# EAGLE library part LX200V30 (library ali_modules)
Broadband Power Line Communication Module Datasheet <https://downloads.rakwireless.com/PLC/LX200V30/Hardware%20Specification/LX200V30_Data_Sheet.pdf>
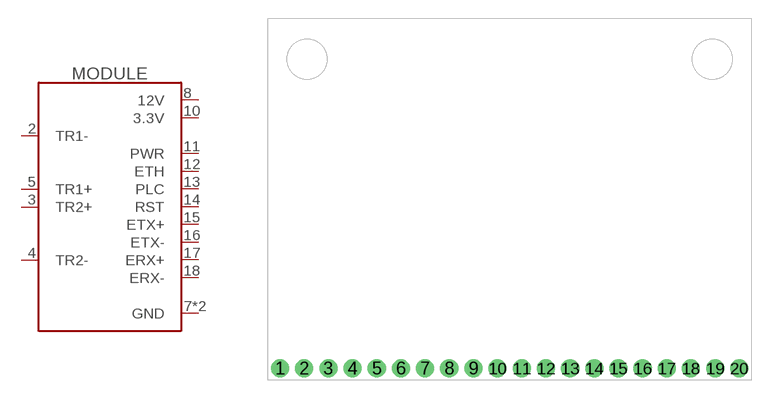
[diagram p1: symbol with the pads of LX200V30; footprint LX200V30]

Designator prefix MODULE

## LX200V30 (MANF: Rakwireless; MANF#: LX200V30)  [LX200V30]
2  TR1-
3  TR2+
4  TR2-
5  TR1+
7  GND
8  12V
9  GND
10  3.3V
11  PWR
12  ETH
13  PLC
14  RST
15  ETX+
16  ETX-
17  ERX+
18  ERX-

## Footprint LX200V30 (pad centres in mm)
drill 0.9 pad 1.5: 1 -19,-14; 2 -17,-14; 3 -15,-14; 4 -13,-14; 5 -11,-14; 6 -9,-14; 7 -7,-14; 8 -5,-14; 9 -3,-14; 10 -1,-14; 11 1,-14; 12 3,-14; 13 5,-14; 14 7,-14; 15 9,-14; 16 11,-14; 17 13,-14; 18 15,-14; 19 17,-14; 20 19,-14